# Altium schematic symbol library FUSE_DCAR_HOLDER.SchLib: 1 symbol
Pins are listed as number, name and electrical type; pins without a type are passive.

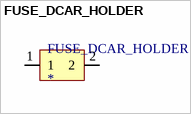
[diagram p0: symbol FUSE_DCAR_HOLDER]

## FUSE_DCAR_HOLDER
designator FUSE_DCAR_HOLDER
footprint DCAR Fuse holder
pins: 1, 2